# Altium footprint library REB215_XPRO_Extension_Board.PcbLib: 56 footprints (part 3 of 4)
Each footprint in its own frame and in the unit in brackets; x right, y up, seen from the top. Pads: shape width x height; smd on the part's side, far side on the other; paste and mask are expansions set on the pad; w line width, h text height; cw(c..) or ccw(c..) is an arc to the next point about the centre after c.
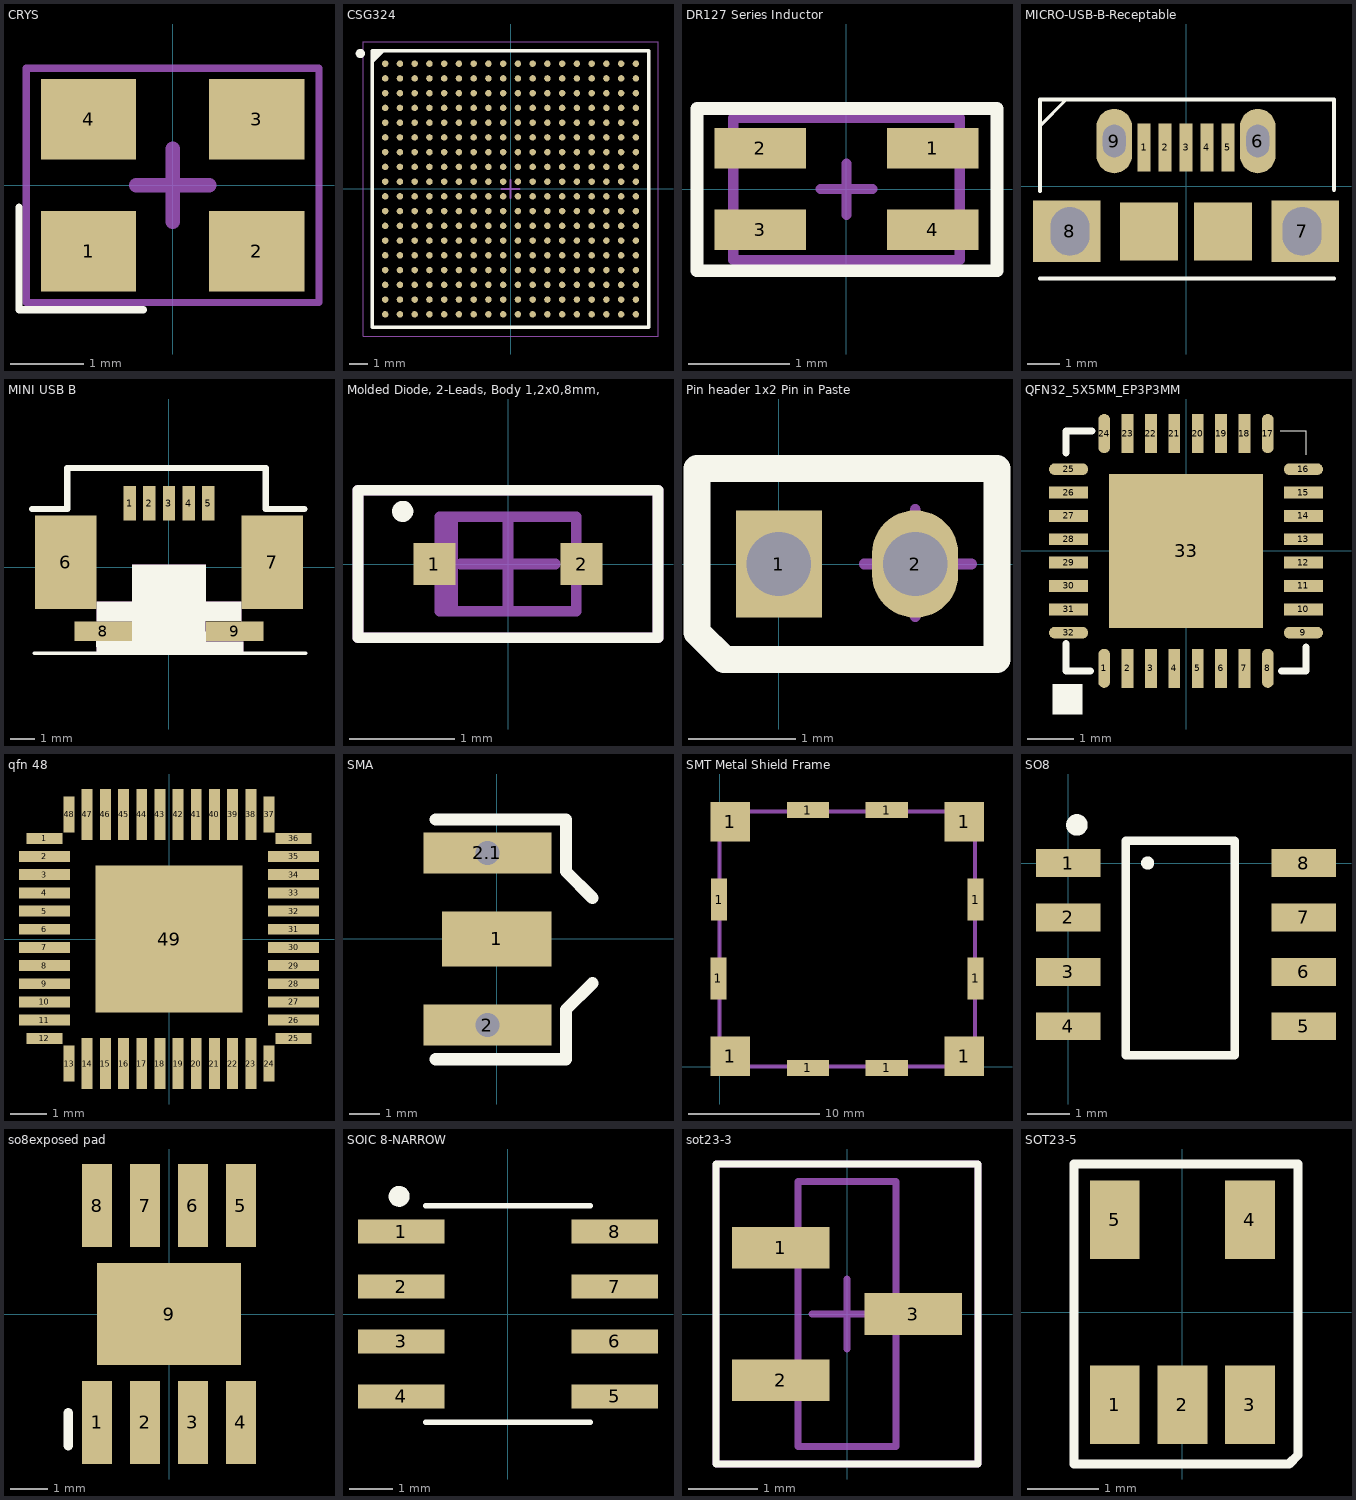
[diagram p2: the footprints below, top view; thin cyan lines are the x and y axes]

## CRYS [mm] "Geyer KX-7 Crystal 3.2X2"
height 0.6
pads (4):
  rect 1.3x1.1 smd: 1(-1.15,-0.9) 2(1.15,-0.9) 3(1.15,0.9) 4(-1.15,0.9)
Top Overlay:
  lines w0.1: -2.1,-0.3 -2.1,-1.7 -0.4,-1.7
Mechanical 15:
  lines w0.1: -2,-1.6 -2,1.6 2,1.6 2,-1.6 -2,-1.6
  lines w0.2: -0.5,0 0.5,0 ; 0,-0.5 0,0.5
3D body "UserLibraryGeyerElectronics_KX7.step": height 0.82, standoff 0.01, extent -1.607,-1.25 1.607,1.25

## CSG324 [mm] "BGA, 324-Balls, Body 15x15mm, Pitch 0.8mm"
height 1.5
pads (324):
  round 0.35 smd: A1(-6.8,6.8) A2(-6,6.8) A3(-5.2,6.8) A4(-4.4,6.8) A5(-3.6,6.8) A6(-2.8,6.8) A7(-2,6.8) A8(-1.2,6.8) A9(-0.4,6.8) A10(0.4,6.8) A11(1.2,6.8) A12(2,6.8) A13(2.8,6.8) A14(3.6,6.8) A15(4.4,6.8) A16(5.2,6.8) A17(6,6.8) A18(6.8,6.8) B1(-6.8,6) B2(-6,6) B3(-5.2,6) B4(-4.4,6) B5(-3.6,6) B6(-2.8,6) B7(-2,6) B8(-1.2,6) B9(-0.4,6) B10(0.4,6) B11(1.2,6) B12(2,6) B13(2.8,6) B14(3.6,6) B15(4.4,6) B16(5.2,6) B17(6,6) B18(6.8,6) C1(-6.8,5.2) C2(-6,5.2) C3(-5.2,5.2) C4(-4.4,5.2) C5(-3.6,5.2) C6(-2.8,5.2) C7(-2,5.2) C8(-1.2,5.2) C9(-0.4,5.2) C10(0.4,5.2) C11(1.2,5.2) C12(2,5.2) C13(2.8,5.2) C14(3.6,5.2) C15(4.4,5.2) C16(5.2,5.2) C17(6,5.2) C18(6.8,5.2) D1(-6.8,4.4) D2(-6,4.4) D3(-5.2,4.4) D4(-4.4,4.4) D5(-3.6,4.4) D6(-2.8,4.4) D7(-2,4.4) D8(-1.2,4.4) D9(-0.4,4.4) D10(0.4,4.4) D11(1.2,4.4) D12(2,4.4) D13(2.8,4.4) D14(3.6,4.4) D15(4.4,4.4) D16(5.2,4.4) D17(6,4.4) D18(6.8,4.4) E1(-6.8,3.6) E2(-6,3.6) E3(-5.2,3.6) E4(-4.4,3.6) E5(-3.6,3.6) E6(-2.8,3.6) E7(-2,3.6) E8(-1.2,3.6) E9(-0.4,3.6) E10(0.4,3.6) E11(1.2,3.6) E12(2,3.6) E13(2.8,3.6) E14(3.6,3.6) E15(4.4,3.6) E16(5.2,3.6) E17(6,3.6) E18(6.8,3.6) F1(-6.8,2.8) F2(-6,2.8) F3(-5.2,2.8) F4(-4.4,2.8) F5(-3.6,2.8) F6(-2.8,2.8) F7(-2,2.8) F8(-1.2,2.8) F9(-0.4,2.8) F10(0.4,2.8) F11(1.2,2.8) F12(2,2.8) F13(2.8,2.8) F14(3.6,2.8) F15(4.4,2.8) F16(5.2,2.8) F17(6,2.8) F18(6.8,2.8) G1(-6.8,2) G2(-6,2) G3(-5.2,2) G4(-4.4,2) G5(-3.6,2) G6(-2.8,2) G7(-2,2) G8(-1.2,2) G9(-0.4,2) G10(0.4,2) G11(1.2,2) G12(2,2) G13(2.8,2) G14(3.6,2) G15(4.4,2) G16(5.2,2) G17(6,2) G18(6.8,2) H1(-6.8,1.2) H2(-6,1.2) H3(-5.2,1.2) H4(-4.4,1.2) H5(-3.6,1.2) H6(-2.8,1.2) H7(-2,1.2) H8(-1.2,1.2) H9(-0.4,1.2) H10(0.4,1.2) H11(1.2,1.2) H12(2,1.2) H13(2.8,1.2) H14(3.6,1.2) H15(4.4,1.2) H16(5.2,1.2) H17(6,1.2) H18(6.8,1.2) J1(-6.8,0.4) J2(-6,0.4) J3(-5.2,0.4) J4(-4.4,0.4) J5(-3.6,0.4) J6(-2.8,0.4) J7(-2,0.4) J8(-1.2,0.4) J9(-0.4,0.4) J10(0.4,0.4) J11(1.2,0.4) J12(2,0.4) J13(2.8,0.4) J14(3.6,0.4) J15(4.4,0.4) J16(5.2,0.4) J17(6,0.4) J18(6.8,0.4) K1(-6.8,-0.4) K2(-6,-0.4) K3(-5.2,-0.4) K4(-4.4,-0.4) K5(-3.6,-0.4) K6(-2.8,-0.4) K7(-2,-0.4) K8(-1.2,-0.4) K9(-0.4,-0.4) K10(0.4,-0.4) K11(1.2,-0.4) K12(2,-0.4) K13(2.8,-0.4) K14(3.6,-0.4) K15(4.4,-0.4) K16(5.2,-0.4) K17(6,-0.4) K18(6.8,-0.4) L1(-6.8,-1.2) L2(-6,-1.2) L3(-5.2,-1.2) L4(-4.4,-1.2) L5(-3.6,-1.2) L6(-2.8,-1.2) L7(-2,-1.2) L8(-1.2,-1.2) L9(-0.4,-1.2) L10(0.4,-1.2) L11(1.2,-1.2) L12(2,-1.2) L13(2.8,-1.2) L14(3.6,-1.2) L15(4.4,-1.2) L16(5.2,-1.2) L17(6,-1.2) L18(6.8,-1.2) M1(-6.8,-2) M2(-6,-2) M3(-5.2,-2) M4(-4.4,-2) M5(-3.6,-2) M6(-2.8,-2) M7(-2,-2) M8(-1.2,-2) M9(-0.4,-2) M10(0.4,-2) M11(1.2,-2) M12(2,-2) M13(2.8,-2) M14(3.6,-2) M15(4.4,-2) M16(5.2,-2) M17(6,-2) M18(6.8,-2) N1(-6.8,-2.8) N2(-6,-2.8) N3(-5.2,-2.8) N4(-4.4,-2.8) N5(-3.6,-2.8) N6(-2.8,-2.8) N7(-2,-2.8) N8(-1.2,-2.8) N9(-0.4,-2.8) N10(0.4,-2.8) N11(1.2,-2.8) N12(2,-2.8) N13(2.8,-2.8) N14(3.6,-2.8) N15(4.4,-2.8) N16(5.2,-2.8) N17(6,-2.8) N18(6.8,-2.8) P1(-6.8,-3.6) P2(-6,-3.6) P3(-5.2,-3.6) P4(-4.4,-3.6) P5(-3.6,-3.6) P6(-2.8,-3.6) P7(-2,-3.6) P8(-1.2,-3.6) P9(-0.4,-3.6) P10(0.4,-3.6) P11(1.2,-3.6) P12(2,-3.6) P13(2.8,-3.6) P14(3.6,-3.6) P15(4.4,-3.6) P16(5.2,-3.6) P17(6,-3.6) P18(6.8,-3.6) R1(-6.8,-4.4) R2(-6,-4.4) R3(-5.2,-4.4) R4(-4.4,-4.4) R5(-3.6,-4.4) R6(-2.8,-4.4) R7(-2,-4.4) R8(-1.2,-4.4) R9(-0.4,-4.4) R10(0.4,-4.4) R11(1.2,-4.4) R12(2,-4.4) R13(2.8,-4.4) R14(3.6,-4.4) R15(4.4,-4.4) R16(5.2,-4.4) R17(6,-4.4) R18(6.8,-4.4) T1(-6.8,-5.2) T2(-6,-5.2) T3(-5.2,-5.2) T4(-4.4,-5.2) T5(-3.6,-5.2) T6(-2.8,-5.2) T7(-2,-5.2) T8(-1.2,-5.2) T9(-0.4,-5.2) T10(0.4,-5.2) T11(1.2,-5.2) T12(2,-5.2) T13(2.8,-5.2) T14(3.6,-5.2) T15(4.4,-5.2) T16(5.2,-5.2) T17(6,-5.2) T18(6.8,-5.2) U1(-6.8,-6) U2(-6,-6) U3(-5.2,-6) U4(-4.4,-6) U5(-3.6,-6) U6(-2.8,-6) U7(-2,-6) U8(-1.2,-6) U9(-0.4,-6) U10(0.4,-6) U11(1.2,-6) U12(2,-6) U13(2.8,-6) U14(3.6,-6) U15(4.4,-6) U16(5.2,-6) U17(6,-6) U18(6.8,-6) V1(-6.8,-6.8) V2(-6,-6.8) V3(-5.2,-6.8) V4(-4.4,-6.8) V5(-3.6,-6.8) V6(-2.8,-6.8) V7(-2,-6.8) V8(-1.2,-6.8) V9(-0.4,-6.8) V10(0.4,-6.8) V11(1.2,-6.8) V12(2,-6.8) V13(2.8,-6.8) V14(3.6,-6.8) V15(4.4,-6.8) V16(5.2,-6.8) V17(6,-6.8) V18(6.8,-6.8)
Top Overlay:
  circle w0.25: c-8.15,7.35 r0.125
  region: -6.913,7.5 -7.5,6.913 -7.5,7.5
  lines w0.2: -7.5,6.913 -6.913,7.5 ; -7.5,-7.5 -7.5,7.5 7.5,7.5 7.5,-7.5 -7.5,-7.5
Mechanical 13:
  lines w0.1: -7.5,-7.5 -7.5,7.5 7.5,7.5 7.5,-7.5 -7.5,-7.5
Mechanical 15:
  lines w0.05: -8,-8 -8,8 8,8 8,-8 -8,-8
  lines w0.1: -0.5,0 0.5,0 ; 0,-0.5 0,0.5
3D body: height 1.5, standoff 0.25, extent -7.5,-7.5 7.5,7.5

## DR127 Series Inductor [mm] "DR127 Series Inductor"
height 8
pads (4):
  rect 0.9x0.4 smd: 1(0.85,0.4) 2(-0.85,0.4) 3(-0.85,-0.4) 4(0.85,-0.4)
Top Overlay:
  lines w0.127: -1.475,-0.806 -1.475,0.794 1.485,0.794 1.485,-0.806 -1.475,-0.806
Mechanical 15:
  lines w0.1: -0.254,-0.001 0.254,-0.001 ; 0,-0.255 0,0.253 ; -1.118,-0.7 1.118,-0.7 1.118,0.7 -1.118,0.7 -1.118,-0.7
3D body "Coilcraft-0805USB-DEFAULT.STEP": height 1.64, standoff -0.01, extent -1.01,-0.645 1.01,0.645

## MICRO-USB-B-Receptable [mm] "10118194-0001LF"
pads (11):
  rect 0.4x1.5 smd: 1(-1.3,1.2) 2(-0.65,1.2) 3(0,1.2) 4(0.65,1.2) 5(1.3,1.2)
  oval 1.1x2 hole 0.7 slot 1 at 90 deg: 6(2.225,1.4) 9(-2.225,1.4)
  rect 2.1x1.9 / inner round 1.3 / far side round 1.3 hole 1.2 slot 1.5 at 90 deg copper offset 0.1,0: 7(3.6,-1.4)
  rect 2.1x1.9 / inner round 1.3 / far side round 1.3 hole 1.2 slot 1.5 at 90 deg copper offset -0.1,0: 8(-3.6,-1.4)
  rect 1.8x1.8 smd: ""(-1.15,-1.4) ""(1.15,-1.4)
Top Overlay:
  lines w0.1: -4.532,1.7 -4.532,1.861 -3.721,2.672
  lines w0.127: -4.532,-2.864 4.587,-2.864 ; -4.532,-0.15 -4.532,2.69 4.587,2.69 4.587,-0.11
3D body "48281.stp": height 2.85, standoff -0.54, extent -4.397,-4.292 4.253,1.606

## MINI USB B [mm]
pads (9):
  rect 0.5x1.4 smd: 1(-1.6,2.6) 2(-0.8,2.6) 3(0,2.6) 4(0.8,2.6) 5(1.6,2.6)
  rect 2.5x3.8 smd: 6(-4.2,0.2) 7(4.2,0.2)
  rect 2.35x0.8 smd: 8(-2.675,-2.6) 9(2.675,-2.6)
Top Overlay:
  lines w0.152: -5.466,-3.5 5.558,-3.5
  lines w0.254: -5.567,2.371 -4.14,2.371 -4.14,4.04 3.937,4.04 3.937,2.371 5.507,2.371
Top Overlay keep-out:
  region: -2.934,-2.196 -1.488,-2.195 -1.488,-3.014 -2.954,-3.01 -2.946,-3.475 2.921,-3.475 3.011,-3.475 3.013,-3.026 1.485,-3.024 1.48,-2.183 2.942,-2.19 2.942,-1.408 1.5,-1.4 1.5,0.1 -1.5,0.1 -1.5,-1.4 -2.934,-1.397
3D body "UX60SC-MB-5ST.stp": height 3.95, standoff 0, extent -4.951,-3.785 4.849,3.215

## Molded Diode, 2-Leads, Body 1,2x0,8mm, [mm] "Molded Diode, 2-Leads, Body 1,2x0,8mm, IPC Medium Density"
height 0.7
pads (2):
  rect 0.4x0.4 smd: 1(-0.7,0) 2(0.7,0)
Top Overlay:
  circle w0.1: c-1,0.5 r0.05
  lines w0.1: -1.425,-0.7 -1.425,0.7 1.425,0.7 1.425,-0.7 -1.425,-0.7
Mechanical 13:
  rectangle: -0.65,-0.45 -0.475,0.45
  lines w0.1: -0.65,-0.45 -0.65,0.45 0.65,0.45 0.65,-0.45 -0.65,-0.45
Mechanical 15:
  lines w0.1: -0.45,0 0.45,0 ; 0,-0.45 0,0.45 ; -1.425,-0.7 -1.425,0.7 1.425,0.7 1.425,-0.7 -1.425,-0.7
3D body "User Library-SOD-523F.step": height 0.7, standoff 0, extent -0.8,-0.399 0.8,0.399

## Pin header 1x2 Pin in Paste [mm] "Pin header 1x2 Pin in Paste"
height 6.1
pads (2):
  rect 0.8x1 hole 0.6: 1(0,0)
  oval 0.8x1 hole 0.6: 2(1.27,0)
Top Overlay:
  lines w0.254: -0.762,-0.635 -0.508,-0.889 2.032,-0.889 2.032,0.889 -0.762,0.889 -0.762,-0.635
Mechanical 15:
  lines w0.1: 0.795,0 1.795,0 ; 1.27,-0.492 1.27,0.508

## QFN32_5X5MM_EP3P3MM [mil] "QFN32_5X5MM_EP3P3MM"
pads (33):
  oval 10x33 smd mask+2: 1(-68.95,-99) 8(68.95,-99) 17(68.95,99) 24(-68.95,99)
  rect 10x33 smd mask+2: 2(-49.25,-99) 3(-29.55,-99) 4(-9.85,-99) 5(9.85,-99) 6(29.55,-99) 7(49.25,-99) 18(49.25,99) 19(29.55,99) 20(9.85,99) 21(-9.85,99) 22(-29.55,99) 23(-49.25,99)
  oval 33x10 smd mask+2: 9(99,-68.95) 16(99,68.95) 25(-99,68.95) 32(-99,-68.95)
  rect 33x10 smd mask+2: 10(99,-49.25) 11(99,-29.55) 12(99,-9.85) 13(99,9.85) 14(99,29.55) 15(99,49.25) 26(-99,49.25) 27(-99,29.55) 28(-99,9.85) 29(-99,-9.85) 30(-99,-29.55) 31(-99,-49.25)
  rect 129.92x129.92 smd mask+2: 33(0,0)
Top Overlay:
  pour cut-out: -112.5,-112.5 -112.5,-137.5 -87.5,-137.5 -87.5,-112.5
  lines w1: 79.5,101.29 101.29,101.29 101.29,81
  lines w6: -101.29,-78 -101.29,-101.29 -80.5,-101.29 ; -101.29,82.5 -101.29,101.29 -79.5,101.29 ; 80.5,-101.29 101.29,-101.29 101.29,-81

## qfn 48 [mm] "U_48_RSL"
pads (49):
  rect 1x0.3 smd mask+0.051: 1(-3.425,2.769) 12(-3.425,-2.731) 25(3.425,-2.731) 36(3.425,2.769)
  rect 1.4x0.3 smd mask+0.051: 2(-3.425,2.269) 3(-3.425,1.769) 4(-3.425,1.269) 5(-3.425,0.769) 6(-3.425,0.269) 7(-3.425,-0.231) 8(-3.425,-0.731) 9(-3.425,-1.231) 10(-3.425,-1.731) 11(-3.425,-2.231) 26(3.425,-2.231) 27(3.425,-1.731) 28(3.425,-1.231) 29(3.425,-0.731) 30(3.425,-0.231) 31(3.425,0.269) 32(3.425,0.769) 33(3.425,1.269) 34(3.425,1.769) 35(3.425,2.269)
  rect 0.3x1 smd mask+0.051: 13(-2.75,-3.425) 24(2.75,-3.425) 37(2.75,3.425) 48(-2.75,3.425)
  rect 0.3x1.4 smd mask+0.051: 14(-2.25,-3.425) 15(-1.75,-3.425) 16(-1.25,-3.425) 17(-0.75,-3.425) 18(-0.25,-3.425) 19(0.25,-3.425) 20(0.75,-3.425) 21(1.25,-3.425) 22(1.75,-3.425) 23(2.25,-3.425) 38(2.25,3.425) 39(1.75,3.425) 40(1.25,3.425) 41(0.75,3.425) 42(0.25,3.425) 43(-0.25,3.425) 44(-0.75,3.425) 45(-1.25,3.425) 46(-1.75,3.425) 47(-2.25,3.425)
  rect 4.05x4.05 smd mask+0.051: 49(0,0)
Top Paste:
  pour cut-out: 0.876,-0.572 0.876,0.572 2.019,0.572 2.019,-0.572
  pour cut-out: -0.572,-0.572 -0.572,0.572 0.572,0.572 0.572,-0.572
  pour cut-out: -2.019,-0.572 -2.019,0.572 -0.876,0.572 -0.876,-0.572
  pour cut-out: -2.019,0.876 -2.019,2.019 -0.876,2.019 -0.876,0.876
  pour cut-out: -0.572,0.876 -0.572,2.019 0.572,2.019 0.572,0.876
  pour cut-out: 0.876,0.876 0.876,2.019 2.019,2.019 2.019,0.876
  pour cut-out: -2.019,-2.019 -2.019,-0.876 -0.876,-0.876 -0.876,-2.019
  pour cut-out: -0.572,-2.019 -0.572,-0.876 0.572,-0.876 0.572,-2.019
  pour cut-out: 0.876,-2.019 0.876,-0.876 2.019,-0.876 2.019,-2.019

## SMA [mm] "SMA card edge mount 1.6mm substrate"
height 5
pads (3):
  rect 3.6x1.8 smd: 1(0,0)
  rect 4.2x1.35 hole 0.8 paste-0.3: 2(-0.3,-2.825)
  rect 4.2x1.35 hole 0.8 paste-0.3 mask+0: 2.1(-0.3,2.825)
Top Overlay:
  lines w0.4: -2,-3.95 2.275,-3.95 2.275,-2.325 3.15,-1.45 ; -2,3.925 2.275,3.925 2.275,2.225 3.15,1.35
3D body "Samtec-SMA-J-P-H-ST-EM1.step": height 3.71, standoff -2.64, extent -12.165,-3.175 1.165,3.175

## SMT Metal Shield Frame [mm] "SMT Metal Shield Frame"
height 3
pads (12):
  rect 1.2x3.2 smd paste-3.2: 1(-0.1,6.7) 1(-0.05,12.7) 1(19.45,6.7) 1(19.45,12.7)
  rect 3x3 smd paste-3: 1(0.8,18.6) 1(0.8,0.8) 1(18.6,18.6) 1(18.6,0.8)
  rect 3.2x1.2 smd paste-3.2: 1(6.7,-0.1) 1(6.7,19.5) 1(12.7,-0.1) 1(12.7,19.5)
Mechanical 13:
  lines w0.3: 0,0 19.4,0 19.4,19.4 0,19.4 0,0
3D body "Designvorschlag_lt11bh2611-atmel-asm_asm.stp": height 3.2, standoff 0, extent -0.3,-0.3 19.7,19.7

## SO8 [mm] "SOIC, 8-Leads, Body 4.9x3.9mm, Pitch 1.27mm, IPC Low Density"
height 1.75
pads (8):
  rect 1.5x0.65 smd: 1(0,0) 2(0,-1.27) 3(0,-2.54) 4(0,-3.81) 5(5.5,-3.81) 6(5.5,-2.54) 7(5.5,-1.27) 8(5.5,0)
Top Overlay:
  circle w0.25: c0.205,0.889 r0.125
  circle w0.254: c1.856,0 r0.025
  lines w0.2: 1.348,-4.481 3.888,-4.481 3.888,0.519 1.348,0.519 1.348,-4.481
3D body "User Library-SOIC8_JEDEC_MS-012AA.STEP": height 1.75, standoff -0.01, extent -0.305,-4.405 5.894,0.595

## so8exposed pad [mm]
pads (9):
  rect 0.8x2.2 smd: 1(-1.905,-2.87) 2(-0.635,-2.87) 3(0.635,-2.87) 4(1.905,-2.87) 5(1.905,2.87) 6(0.635,2.87) 7(-0.635,2.87) 8(-1.905,2.87)
  rect 3.81x2.7 smd: 9(0,0)
Top Overlay:
  lines w0.254: -2.667,-3.48 -2.667,-2.616

## SOIC 8-NARROW [mm]
pads (8):
  rect 2x0.55 smd: 1(-2.465,1.905) 2(-2.465,0.635) 3(-2.465,-0.635) 4(-2.465,-1.905) 5(2.465,-1.905) 6(2.465,-0.635) 7(2.465,0.635) 8(2.465,1.905)
Top Overlay:
  circle w0.254: c-2.515,2.718 r0.114
  lines w0.127: -1.9,-2.5 1.9,-2.5 ; -1.9,2.5 1.9,2.5
3D body "SOIC08 narrow.stp": height 2, standoff 0, extent -3.005,-2.475 3.158,2.525

## sot23-3 [mm]
height 1.1
pads (3):
  rect 1.4x0.6 smd: 1(-0.95,0.95) 2(-0.95,-0.95) 3(0.95,0)
Top Overlay:
  lines w0.1: -1.875,-2.15 -1.875,2.15 1.875,2.15 1.875,-2.15 -1.875,-2.15
Mechanical 13:
  lines w0.1: -0.7,-1.9 0.7,-1.9 0.7,1.9 -0.7,1.9 -0.7,-1.9
Mechanical 15:
  lines w0.1: -0.5,0 0.5,0 ; 0,-0.5 0,0.5 ; -1.875,-2.15 1.875,-2.15 1.875,2.15 -1.875,2.15 -1.875,-2.15
3D body "nytt forsok_3-lead sot23-3.step": height 1, standoff -0.02, extent -1.25,-1.46 1.226,1.46

## SOT23-5 [mm]
pads (5):
  rect 0.7x1.1 smd: 1(-0.95,-1.3) 2(0,-1.3) 3(0.95,-1.3) 4(0.95,1.3) 5(-0.95,1.3)
Top Overlay:
  lines w0.127: -1.524,-2.134 -1.524,-2.083 -1.524,2.083 1.626,2.083 1.626,-2.007 1.499,-2.134 -1.524,-2.134
3D body "SOT23_5.stp": height 0.92, standoff 0.01, extent -1.485,-1.605 1.515,1.6